# Altium footprint library PCB_Library.PcbLib: 28 footprints (part 2 of 2)
Each footprint in its own frame and in the unit in brackets; x right, y up, seen from the top. Pads: shape width x height; smd on the part's side, far side on the other; paste and mask are expansions set on the pad; w line width, h text height; cw(c..) or ccw(c..) is an arc to the next point about the centre after c.
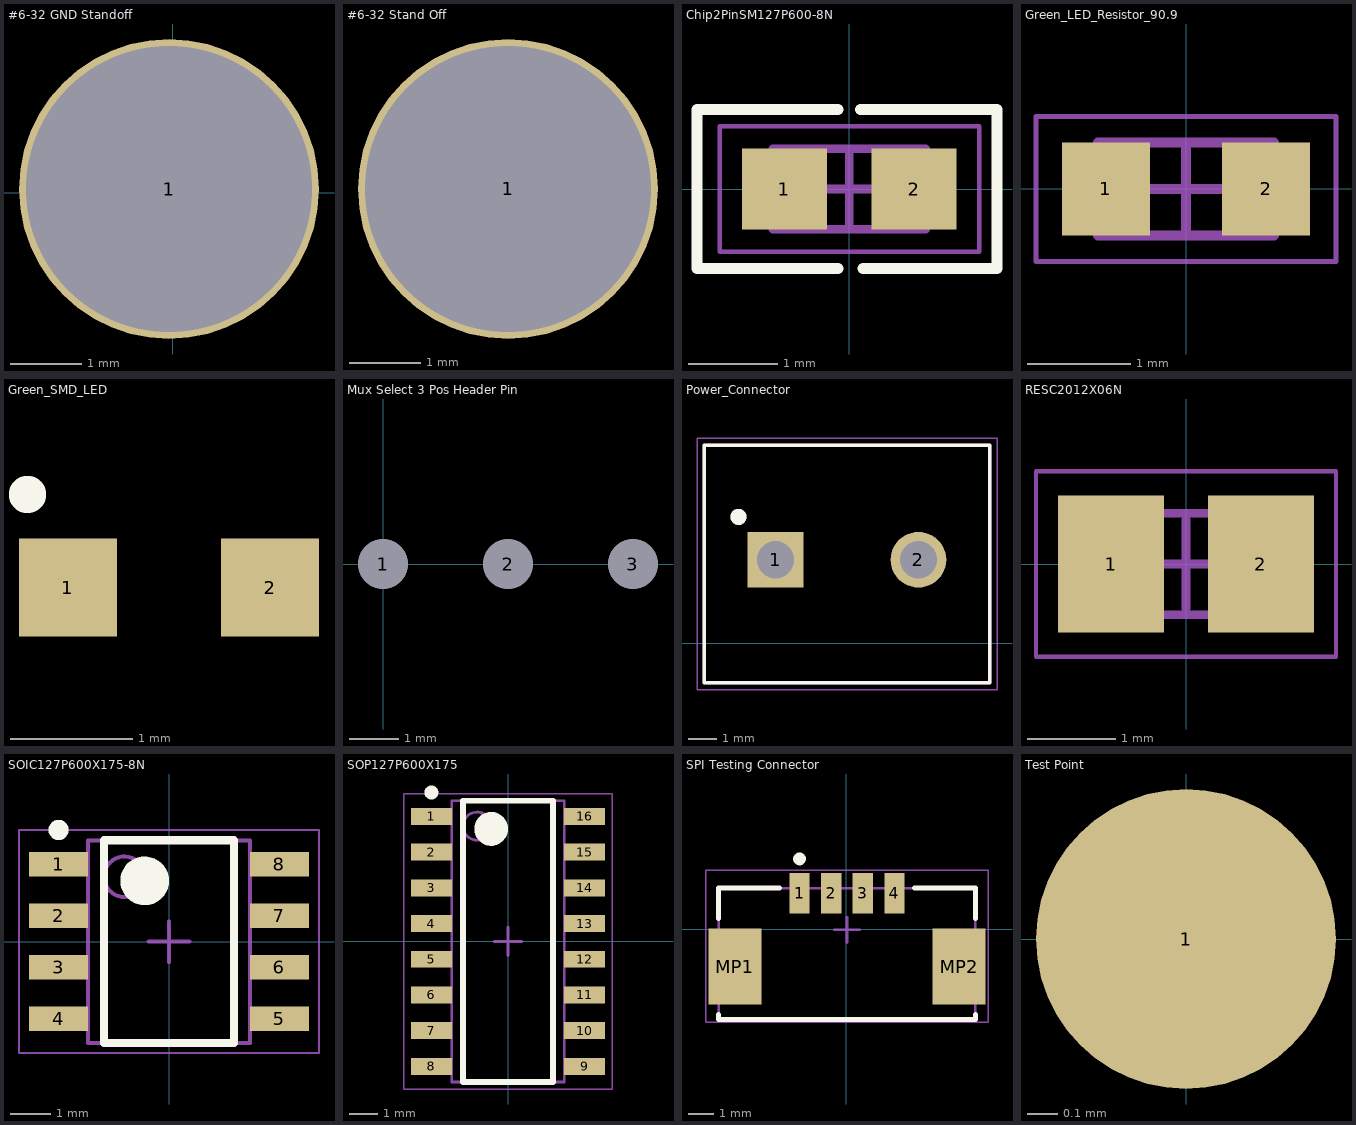
[diagram p1: the footprints below, top view; thin cyan lines are the x and y axes]

## #6-32 GND Standoff [mm] "Hex standoff for Thermistor GND PCB"
pads (1):
  round 4.2 hole 4: 1(-0.051,0.051)
3D body "2104-632-AL.stp": height 12.7, standoff 0, extent -3.709,-3.124 3.608,3.226

## #6-32 Stand Off [mm]
pads (1):
  round 4.2 hole 4: 1(-10.262,-30.658)
3D body "2102T-632-AL.stp": height 10.32, standoff 0, extent -13.92,-33.833 -6.603,-27.483

## Chip2PinSM127P600-8N [mm] "75 Ohm Charge Resevoir Resistor"
height 0.55
pads (2):
  rect 0.95x0.9 smd: 1(-0.725,0) 2(0.725,0)
Top Overlay:
  lines w0.125: -0.127,-0.889 -1.702,-0.889 -1.702,0.889 -0.127,0.889 ; 0.127,0.889 1.651,0.889 1.651,-0.889 0.152,-0.889
Mechanical 13:
  lines w0.1: -0.85,-0.45 0.85,-0.45 0.85,0.45 -0.85,0.45 -0.85,-0.45
Mechanical 15:
  lines w0.05: -1.45,-0.7 1.45,-0.7 1.45,0.7 -1.45,0.7 -1.45,-0.7
  lines w0.1: -0.45,0 0.45,0 ; 0,-0.45 0,0.45
3D body "Chip2PinSM127P600-8N.step": height 0.55, standoff 0, extent -0.85,-0.45 0.85,0.45

## Green_LED_Resistor_90.9 [mm]
height 0.55
pads (2):
  rect 0.85x0.9 smd: 1(-0.775,0) 2(0.775,0)
Mechanical 13:
  lines w0.1: -0.85,-0.45 -0.85,0.45 0.85,0.45 0.85,-0.45 -0.85,-0.45
Mechanical 15:
  lines w0.05: -1.45,-0.7 -1.45,0.7 1.45,0.7 1.45,-0.7 -1.45,-0.7
  lines w0.1: -0.45,0 0.45,0 ; 0,-0.45 0,0.45
3D body "Green_LED_Resistor_90.9.step": height 0.55, standoff 0, extent -0.85,-0.45 0.85,0.45

## Green_SMD_LED [mm]
pads (2):
  rect 0.8x0.8 smd: 1(8.788,-1.626) 2(10.439,-1.626)
Top Overlay:
  circle w0.254: c8.458,-0.864 r0.025
3D body "0603_single.stp": height 0.71, standoff -0.01, extent 8.788,-2.019 10.414,-1.232

## Mux Select 3 Pos Header Pin [mm]
pads (3):
  round 1 hole 1.02: 1(0,0) 2(2.54,0) 3(5.08,0)
3D body "PH1RA-03-UA.STEP": height 5.77, standoff -3.4, extent -1.194,-7.255 6.433,1.245

## Power_Connector [mm]
pads (2):
  rect 1.95x1.95 hole 1.3: 1(20.36,2.921)
  round 1.95 hole 1.3: 2(25.36,2.921)
Top Overlay:
  circle w0.28: c19.06,4.421 r0.14
  lines w0.127: 17.86,-1.379 17.86,6.921 27.86,6.921 27.86,-1.379 17.86,-1.379
Mechanical 4:
  circle w0.28: c19.06,4.421 r0.14
  circle w0.28: c19.06,4.421 r0.14
  lines w0.127: 17.86,-1.379 27.86,-1.379 ; 17.86,-1.379 17.86,6.921 ; 17.86,-1.379 27.86,-1.379 ; 17.86,-1.379 17.86,6.921 ; 17.86,6.921 27.86,6.921 ; 17.86,6.921 27.86,6.921 ; 27.86,-1.379 27.86,6.921 ; 27.86,-1.379 27.86,6.921
Mechanical 16:
  lines w0.05: 17.61,-1.629 17.61,7.171 28.11,7.171 28.11,-1.629 17.61,-1.629
3D body "1935161--3DModel-STEP-56544.STEP": height 11.41, standoff -3.48, extent 17.889,-2.134 28.289,6.866

## RESC2012X06N [mm] "Chip Resistor, 2-Leads, Body 2.00x1.25mm, IPC Medium Density"
height 0.6
pads (2):
  rect 1.2x1.55 smd: 1(-0.85,0) 2(0.85,0)
Mechanical 13:
  lines w0.1: -1.1,-0.575 1.1,-0.575 1.1,0.575 -1.1,0.575 -1.1,-0.575
Mechanical 15:
  lines w0.05: -1.7,-1.05 1.7,-1.05 1.7,1.05 -1.7,1.05 -1.7,-1.05
  lines w0.1: -0.5,0 0.5,0 ; 0,-0.5 0,0.5
3D body "RESC2012X06N.step": height 0.6, standoff 0, extent -1.1,-0.575 1.1,0.575

## SOIC127P600X175-8N [mm] "SOIC, 8-Leads, Body 4.90x3.90mm, Pitch 1.27mm, IPC Medium Density"
height 1.75
pads (8):
  rect 1.45x0.6 smd: 1(-2.725,1.905) 2(-2.725,0.635) 3(-2.725,-0.635) 4(-2.725,-1.905) 5(2.725,-1.905) 6(2.725,-0.635) 7(2.725,0.635) 8(2.725,1.905)
Top Overlay:
  circle w0.25: c-2.725,2.755 r0.125
  circle w0.6: c-0.6,1.5 r0.3
  lines w0.2: -1.6,-2.5 -1.6,2.5 1.6,2.5 1.6,-2.5 -1.6,-2.5
Mechanical 13:
  circle w0.1: c-1.1,1.6 r0.5
  lines w0.1: -2,-2.5 -2,2.5 2,2.5 2,-2.5 -2,-2.5
Mechanical 15:
  lines w0.05: -3.7,-2.75 -3.7,2.75 3.7,2.75 3.7,-2.75 -3.7,-2.75
  lines w0.1: -0.5,0 0.5,0 ; 0,-0.5 0,0.5
3D body "SOIC127P600X175-8N.step": height 1.75, standoff 0, extent -3,-2.5 3,2.5

## SOP127P600X175 [mm] "SOP, 16-Leads, Body 9.90x3.90mm, Pitch 1.27mm, IPC Medium Density"
height 1.75
pads (16):
  rect 1.45x0.6 smd: 1(-2.725,4.445) 2(-2.725,3.175) 3(-2.725,1.905) 4(-2.725,0.635) 5(-2.725,-0.635) 6(-2.725,-1.905) 7(-2.725,-3.175) 8(-2.725,-4.445) 9(2.725,-4.445) 10(2.725,-3.175) 11(2.725,-1.905) 12(2.725,-0.635) 13(2.725,0.635) 14(2.725,1.905) 15(2.725,3.175) 16(2.725,4.445)
Top Overlay:
  circle w0.6: c-0.6,4 r0.3
  circle w0.25: c-2.725,5.295 r0.125
  lines w0.2: -1.6,-5 1.6,-5 1.6,5 -1.6,5 -1.6,-5
Mechanical 13:
  circle w0.1: c-1.1,4.1 r0.5
  lines w0.1: -2,-5 2,-5 2,5 -2,5 -2,-5
Mechanical 15:
  lines w0.05: -3.7,-5.25 3.7,-5.25 3.7,5.25 -3.7,5.25 -3.7,-5.25
  lines w0.1: -0.5,0 0.5,0 ; 0,-0.5 0,0.5
3D body "SOP127P600X175.step": height 1.75, standoff 0, extent -3,-5 3,5

## SPI Testing Connector [mm]
pads (6):
  rect 0.8x1.6 smd: 1(-1.85,1.425) 2(-0.6,1.425) 3(0.65,1.425) 4(1.9,1.425)
  rect 2.1x3 smd: MP1(-4.4,-1.475) MP2(4.45,-1.475)
Top Overlay:
  circle w0.25: c-1.85,2.775 r0.125
  lines w0.2: -5.05,-3.375 -5.05,-3.575 5.1,-3.575 5.1,-3.375 ; -5.05,0.425 -5.05,1.625 -2.65,1.625 ; 2.7,1.625 5.1,1.625 5.1,0.425
Mechanical 13:
  lines w0.1: -5.05,-3.575 -5.05,1.625 5.1,1.625 5.1,-3.575 -5.05,-3.575
Mechanical 15:
  lines w0.05: -5.55,-3.675 -5.55,2.325 5.6,2.325 5.6,-3.675 -5.55,-3.675
  lines w0.1: -0.475,-0.025 0.525,-0.025 ; 0.025,-0.525 0.025,0.475
3D body "532610471.stp": height 3.4, standoff 0, extent -5.05,-3.575 5.1,1.625

## Test Point [mm]
pads (1):
  round 1 smd: 1(0,0)